# Altium footprint library PCB - LEADED - SOT - TOSHIBA SC-75 SSM N-CH.PcbLib: 1 footprints
Each footprint in its own frame and in the unit in brackets; x right, y up, seen from the top. Pads: shape width x height; smd on the part's side, far side on the other; paste and mask are expansions set on the pad; w line width, h text height; cw(c..) or ccw(c..) is an arc to the next point about the centre after c.
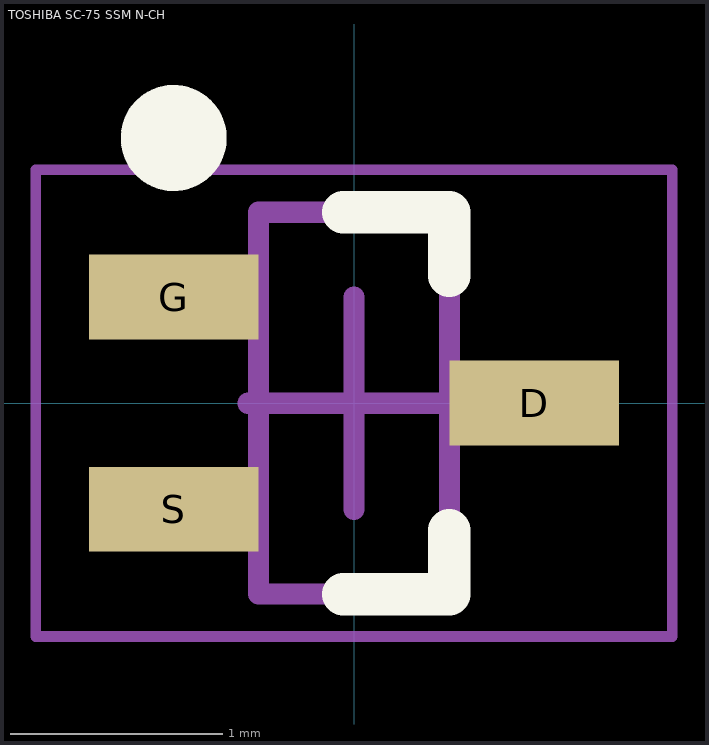
[diagram p0: the footprint, top view; thin cyan lines are the x and y axes]

## TOSHIBA SC-75 SSM N-CH [mm] "SSM, 3-Leads, Body 1.60x1.60mm, Pitch 0.50mm"
height 0.8
pads (3):
  rect 0.8x0.4 smd: D(0.85,0) G(-0.85,0.5) S(-0.85,-0.5)
Top Overlay:
  circle w0.25: c-0.85,1.25 r0.125
  lines w0.2: -0.05,-0.9 0.45,-0.9 0.45,-0.6 ; -0.05,0.9 0.45,0.9 0.45,0.6
Mechanical 13:
  lines w0.1: -0.45,-0.9 -0.45,0.9 0.45,0.9 0.45,-0.9 -0.45,-0.9
Mechanical 15:
  lines w0.05: -1.5,-1.1 -1.5,1.1 1.5,1.1 1.5,-1.1 -1.5,-1.1
  lines w0.1: -0.5,0 0.5,0 ; 0,-0.5 0,0.5
3D body "TOSHIBA SC-75 SSM N-CH.step": height 0.8, standoff 0, extent -0.9,-0.9 0.9,0.9